# Altium schematic symbol library L9958.SchLib: 1 symbol
Pins are listed as number, name and electrical type; pins without a type are passive.

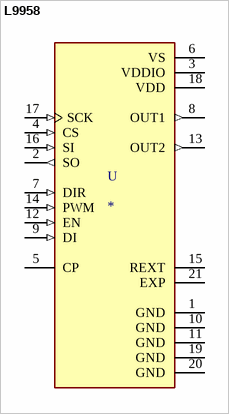
[diagram p0: symbol L9958]

## L9958
designator U
Bipolar Motor Driver CMOS SPI PowerSO-16â„¢; MF: STMicroelectronics; MP: L9958; SnapEDA_Link: https://www.snapeda.com/parts/L9958/STMicroelectronics/view-part/213961/?ref=snap; Availability: Unavailable; Package: SO-20 STMicroelectronics; Price: None; Value: *
footprint SOIC127P1420X360-21N
pins: 1 GND (power), 2 SO (out), 3 VDDIO (power), 4 CS (in), 5 CP, 6 VS (power), 7 DIR (in), 8 OUT1 (out), 9 DI (in), 10 GND (power), 11 GND (power), 12 EN (in), 13 OUT2 (out), 14 PWM (in), 15 REXT, 16 SI (in), 17 SCK (in), 18 VDD (power), 19 GND (power), 20 GND (power), 21 EXP